# EAGLE library part LT6600-15 (library lt6600)
Very Low Noise, Differential Amplifier and 15MHz Lowpass Filter
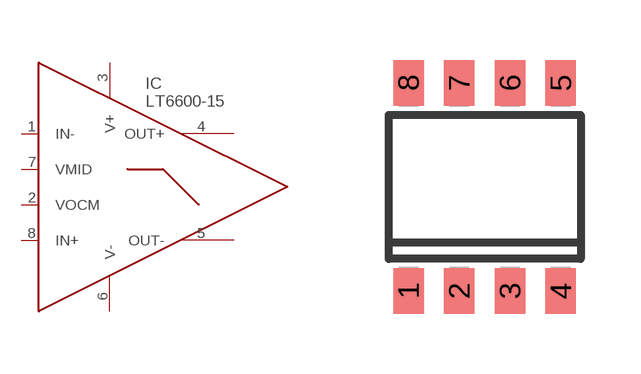
[diagram p0: symbol with the pads of S8; footprint S8]

Designator prefix IC

## LT6600-15  [S8]
1  IN-  in
2  VOCM  in
3  V+  pwr
4  OUT+  out
5  OUT-  out
6  V-  pwr
7  VMID  in
8  IN+  in

## Footprint S8 (pad centres in mm)
8-Lead Plastic Small Outline Narrow .150 Inch Source: http://cds.linear.com/docs/Datasheet/623012fb.pdf
smd 0.762 x 1.143: 1 -1.905,-2.6; 2 -0.635,-2.6; 3 0.635,-2.6; 4 1.905,-2.6; 5 1.905,2.6; 6 0.635,2.6; 7 -0.635,2.6; 8 -1.905,2.6